# Altium schematic symbol library Schlib1.SchLib: 823 symbols (part 5 of 12)
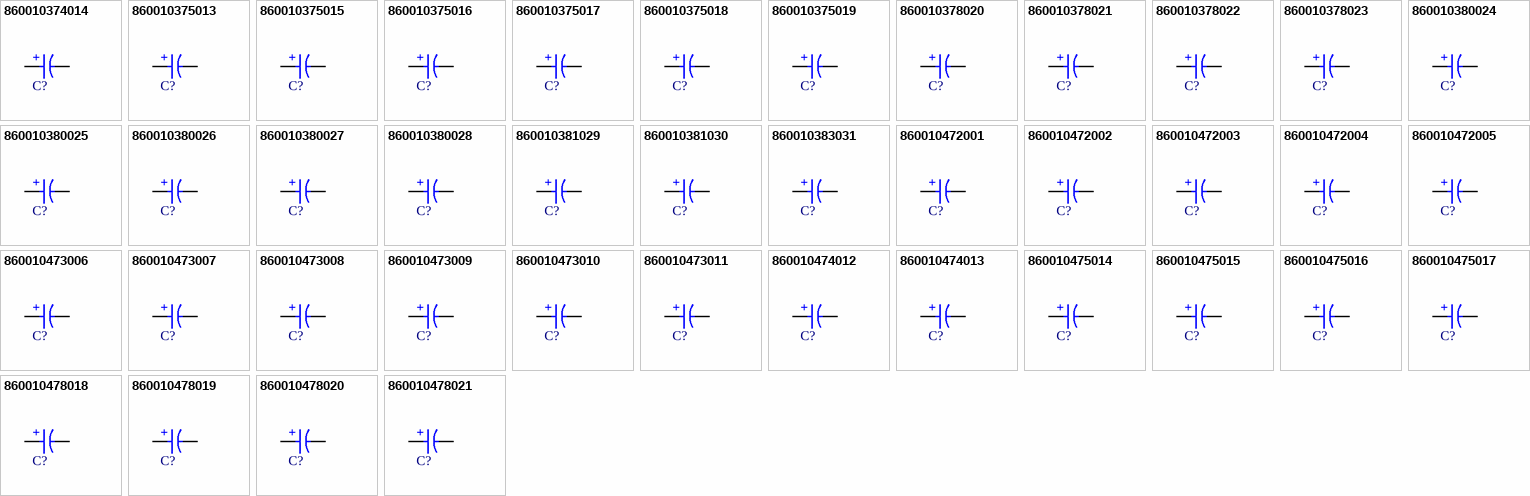
[diagram p43: symbols 860010374014 to 860010478021]

## 860010474013
designator C?, comment 470uF  (value not drawn)
WCAP-ATG8 Aluminum Electrolytic Capacitor, Radial, THT, D8 x H11.5mm, 470uF, 25V; Manufacturer Part Number: 860010474013; Manufacturer: Wurth Elektronik; Capacitance Tolerance: +/-20%; Dissipation Factor: 14%; Endurance: 2000h; Leakage Current: 117.5uA; Ripple Current: 561mA; Technical Reference: ATBE115471M025DSPA7B000; Category: Aluminum Electrolytic Capacitors; Match Code: WCAP-ATG8; ComponentLink1Description: Website Link; ComponentLink1URL: https://www.we-online.com/redexpert/article/860010474013?ad; ComponentLink2Description: Datasheet Link; ComponentLink2URL: https://www.we-online.com/redexpert/spec/860010474013?ad; Mount: Through Hole; Operating Temperature Max: 85°C; Operating Temperature Min: -40°C; Packaging: Ammo Pack; Height: 11.5mm; Diameter: 8mm; Capacitance: 470uF; Rated Voltage (DC): 25V
footprint WCAP-ATG8_D8H11.5
simulation model 860010474013_470uF
pins: 1 P, 2 N
text: +

## 860010475014
designator C?, comment 560uF  (value not drawn)
WCAP-ATG8 Aluminum Electrolytic Capacitor, Radial, THT, D10 x H16mm, 560uF, 25V; Manufacturer Part Number: 860010475014; Manufacturer: Wurth Elektronik; Capacitance Tolerance: +/-20%; Dissipation Factor: 14%; Endurance: 2000h; Leakage Current: 140uA; Ripple Current: 693mA; Technical Reference: ATBF160561M025DSPAAB000; Category: Aluminum Electrolytic Capacitors; Match Code: WCAP-ATG8; ComponentLink1Description: Website Link; ComponentLink1URL: https://www.we-online.com/redexpert/article/860010475014?ad; ComponentLink2Description: Datasheet Link; ComponentLink2URL: https://www.we-online.com/redexpert/spec/860010475014?ad; Mount: Through Hole; Operating Temperature Max: 85°C; Operating Temperature Min: -40°C; Packaging: Ammo Pack; Height: 16mm; Diameter: 10mm; Capacitance: 560uF; Rated Voltage (DC): 25V
footprint WCAP-ATG8_D10H16
simulation model 860010475014_560uF
pins: 1 P, 2 N
text: +

## 860010475015
designator C?, comment 680uF  (value not drawn)
WCAP-ATG8 Aluminum Electrolytic Capacitor, Radial, THT, D10 x H16mm, 680uF, 25V; Manufacturer Part Number: 860010475015; Manufacturer: Wurth Elektronik; Capacitance Tolerance: +/-20%; Dissipation Factor: 14%; Endurance: 2000h; Leakage Current: 170uA; Ripple Current: 792mA; Technical Reference: ATBF160681M025DSPAAB000; Category: Aluminum Electrolytic Capacitors; Match Code: WCAP-ATG8; ComponentLink1Description: Website Link; ComponentLink1URL: https://www.we-online.com/redexpert/article/860010475015?ad; ComponentLink2Description: Datasheet Link; ComponentLink2URL: https://www.we-online.com/redexpert/spec/860010475015?ad; Mount: Through Hole; Operating Temperature Max: 85°C; Operating Temperature Min: -40°C; Packaging: Ammo Pack; Height: 16mm; Diameter: 10mm; Capacitance: 680uF; Rated Voltage (DC): 25V
footprint WCAP-ATG8_D10H16
simulation model 860010475015_680uF
pins: 1 P, 2 N
text: +

## 860010475016
designator C?, comment 820uF  (value not drawn)
WCAP-ATG8 Aluminum Electrolytic Capacitor, Radial, THT, D10 x H20mm, 820uF, 25V; Manufacturer Part Number: 860010475016; Manufacturer: Wurth Elektronik; Capacitance Tolerance: +/-20%; Dissipation Factor: 14%; Endurance: 2000h; Leakage Current: 205uA; Ripple Current: 891mA; Technical Reference: ATBF200821M025DSPAAB000; Category: Aluminum Electrolytic Capacitors; Match Code: WCAP-ATG8; ComponentLink1Description: Website Link; ComponentLink1URL: https://www.we-online.com/redexpert/article/860010475016?ad; ComponentLink2Description: Datasheet Link; ComponentLink2URL: https://www.we-online.com/redexpert/spec/860010475016?ad; Mount: Through Hole; Operating Temperature Max: 85°C; Operating Temperature Min: -40°C; Packaging: Ammo Pack; Height: 20mm; Diameter: 10mm; Capacitance: 820uF; Rated Voltage (DC): 25V
footprint WCAP-ATG8_D10H20
simulation model 860010475016_820uF
pins: 1 P, 2 N
text: +

## 860010475017
designator C?, comment 1000uF  (value not drawn)
WCAP-ATG8 Aluminum Electrolytic Capacitor, Radial, THT, D10 x H20mm, 1000uF, 25V; Manufacturer Part Number: 860010475017; Manufacturer: Wurth Elektronik; Capacitance Tolerance: +/-20%; Dissipation Factor: 14%; Endurance: 2000h; Leakage Current: 250uA; Ripple Current: 1050mA; Technical Reference: ATBF200102M025DSPAAB000; Category: Aluminum Electrolytic Capacitors; Match Code: WCAP-ATG8; ComponentLink1Description: Website Link; ComponentLink1URL: https://www.we-online.com/redexpert/article/860010475017?ad; ComponentLink2Description: Datasheet Link; ComponentLink2URL: https://www.we-online.com/redexpert/spec/860010475017?ad; Mount: Through Hole; Operating Temperature Max: 85°C; Operating Temperature Min: -40°C; Packaging: Ammo Pack; Height: 20mm; Diameter: 10mm; Capacitance: 1000uF; Rated Voltage (DC): 25V
footprint WCAP-ATG8_D10H20
simulation model 860010475017_1mF
pins: 1 P, 2 N
text: +

## 860010478018
designator C?, comment 1200uF  (value not drawn)
WCAP-ATG8 Aluminum Electrolytic Capacitor, Radial, THT, D13 x H20mm, 1200uF, 25V; Manufacturer Part Number: 860010478018; Manufacturer: Wurth Elektronik; Capacitance Tolerance: +/-20%; Dissipation Factor: 14%; Endurance: 2000h; Leakage Current: 300uA; Ripple Current: 1155mA; Technical Reference: ATBI200122M025DSPACB000; Category: Aluminum Electrolytic Capacitors; Match Code: WCAP-ATG8; ComponentLink1Description: Website Link; ComponentLink1URL: https://www.we-online.com/redexpert/article/860010478018?ad; ComponentLink2Description: Datasheet Link; ComponentLink2URL: https://www.we-online.com/redexpert/spec/860010478018?ad; Mount: Through Hole; Operating Temperature Max: 85°C; Operating Temperature Min: -40°C; Packaging: Ammo Pack; Height: 20mm; Diameter: 13mm; Capacitance: 1200uF; Rated Voltage (DC): 25V
footprint WCAP-ATG8_D13H20
simulation model 860010478018_1.2mF
pins: 1 P, 2 N
text: +

## 860010478019
designator C?, comment 1500uF  (value not drawn)
WCAP-ATG8 Aluminum Electrolytic Capacitor, Radial, THT, D13 x H20mm, 1500uF, 25V; Manufacturer Part Number: 860010478019; Manufacturer: Wurth Elektronik; Capacitance Tolerance: +/-20%; Dissipation Factor: 14%; Endurance: 2000h; Leakage Current: 375uA; Ripple Current: 1353mA; Technical Reference: ATBI200152M025DSPACB000; Category: Aluminum Electrolytic Capacitors; Match Code: WCAP-ATG8; ComponentLink1Description: Website Link; ComponentLink1URL: https://www.we-online.com/redexpert/article/860010478019?ad; ComponentLink2Description: Datasheet Link; ComponentLink2URL: https://www.we-online.com/redexpert/spec/860010478019?ad; Mount: Through Hole; Operating Temperature Max: 85°C; Operating Temperature Min: -40°C; Packaging: Ammo Pack; Height: 20mm; Diameter: 13mm; Capacitance: 1500uF; Rated Voltage (DC): 25V
footprint WCAP-ATG8_D13H20
simulation model 860010478019_1.5mF
pins: 1 P, 2 N
text: +

## 860010478020
designator C?, comment 1800uF  (value not drawn)
WCAP-ATG8 Aluminum Electrolytic Capacitor, Radial, THT, D13 x H20mm, 1800uF, 25V; Manufacturer Part Number: 860010478020; Manufacturer: Wurth Elektronik; Capacitance Tolerance: +/-20%; Dissipation Factor: 14%; Endurance: 2000h; Leakage Current: 450uA; Ripple Current: 1496mA; Technical Reference: ATBI200182M025DSPACB000; Category: Aluminum Electrolytic Capacitors; Match Code: WCAP-ATG8; ComponentLink1Description: Website Link; ComponentLink1URL: https://www.we-online.com/redexpert/article/860010478020?ad; ComponentLink2Description: Datasheet Link; ComponentLink2URL: https://www.we-online.com/redexpert/spec/860010478020?ad; Mount: Through Hole; Operating Temperature Max: 85°C; Operating Temperature Min: -40°C; Packaging: Ammo Pack; Height: 20mm; Diameter: 13mm; Capacitance: 1800uF; Rated Voltage (DC): 25V
footprint WCAP-ATG8_D13H20
simulation model 860010478020_1.8mF
pins: 1 P, 2 N
text: +

## 860010478021
designator C?, comment 2200uF  (value not drawn)
WCAP-ATG8 Aluminum Electrolytic Capacitor, Radial, THT, D13 x H25mm, 2200uF, 25V; Manufacturer Part Number: 860010478021; Manufacturer: Wurth Elektronik; Capacitance Tolerance: +/-20%; Dissipation Factor: 14%; Endurance: 2000h; Leakage Current: 550uA; Ripple Current: 1705mA; Technical Reference: ATBI250222M025DSPACB000; Category: Aluminum Electrolytic Capacitors; Match Code: WCAP-ATG8; ComponentLink1Description: Website Link; ComponentLink1URL: https://www.we-online.com/redexpert/article/860010478021?ad; ComponentLink2Description: Datasheet Link; ComponentLink2URL: https://www.we-online.com/redexpert/spec/860010478021?ad; Mount: Through Hole; Operating Temperature Max: 85°C; Operating Temperature Min: -40°C; Packaging: Ammo Pack; Height: 25mm; Diameter: 13mm; Capacitance: 2200uF; Rated Voltage (DC): 25V
footprint WCAP-ATG8_D13H25
simulation model 860010478021_2.2mF
pins: 1 P, 2 N
text: +

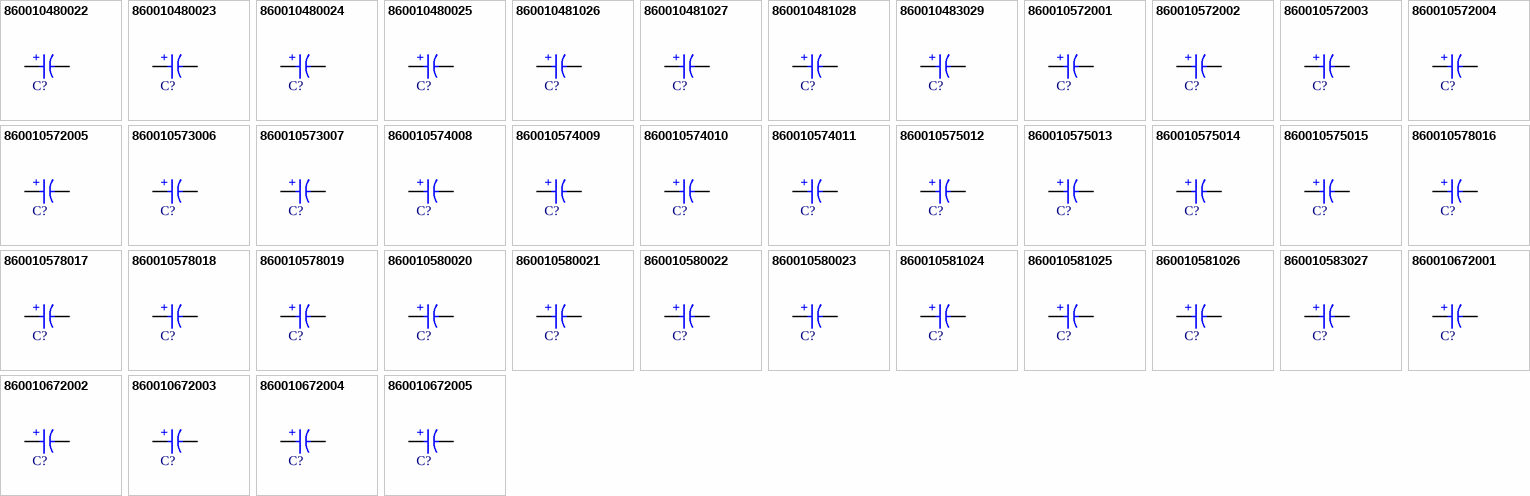
[diagram p8: symbols 860010480022 to 860010672005]

## 860010480022
designator C?, comment 2700uF  (value not drawn)
WCAP-ATG8 Aluminum Electrolytic Capacitor, Radial, THT, D16 x H25mm, 2700uF, 25V; Manufacturer Part Number: 860010480022; Manufacturer: Wurth Elektronik; Capacitance Tolerance: +/-20%; Dissipation Factor: 14%; Endurance: 2000h; Leakage Current: 675uA; Ripple Current: 1804mA; Technical Reference: ATBK250272M025DSPAEB000; Category: Aluminum Electrolytic Capacitors; Match Code: WCAP-ATG8; ComponentLink1Description: Website Link; ComponentLink1URL: https://www.we-online.com/redexpert/article/860010480022?ad; ComponentLink2Description: Datasheet Link; ComponentLink2URL: https://www.we-online.com/redexpert/spec/860010480022?ad; Mount: Through Hole; Operating Temperature Max: 85°C; Operating Temperature Min: -40°C; Packaging: Ammo Pack; Height: 25mm; Diameter: 16mm; Capacitance: 2700uF; Rated Voltage (DC): 25V
footprint WCAP-ATG8_D16H25
simulation model 860010480022_2.7mF
pins: 1 P, 2 N
text: +

## 860010480023
designator C?, comment 3300uF  (value not drawn)
WCAP-ATG8 Aluminum Electrolytic Capacitor, Radial, THT, D16 x H25mm, 3300uF, 25V; Manufacturer Part Number: 860010480023; Manufacturer: Wurth Elektronik; Capacitance Tolerance: +/-20%; Dissipation Factor: 14%; Endurance: 2000h; Leakage Current: 825uA; Ripple Current: 1870mA; Technical Reference: ATBK250332M025DSPAEB000; Category: Aluminum Electrolytic Capacitors; Match Code: WCAP-ATG8; ComponentLink1Description: Website Link; ComponentLink1URL: https://www.we-online.com/redexpert/article/860010480023?ad; ComponentLink2Description: Datasheet Link; ComponentLink2URL: https://www.we-online.com/redexpert/spec/860010480023?ad; Mount: Through Hole; Operating Temperature Max: 85°C; Operating Temperature Min: -40°C; Packaging: Ammo Pack; Height: 25mm; Diameter: 16mm; Capacitance: 3300uF; Rated Voltage (DC): 25V
footprint WCAP-ATG8_D16H25
simulation model 860010480023_3.3mF
pins: 1 P, 2 N
text: +

## 860010480024
designator C?, comment 3900uF  (value not drawn)
WCAP-ATG8 Aluminum Electrolytic Capacitor, Radial, THT, D16 x H31.5mm, 3900uF, 25V; Manufacturer Part Number: 860010480024; Manufacturer: Wurth Elektronik; Capacitance Tolerance: +/-20%; Dissipation Factor: 14%; Endurance: 2000h; Leakage Current: 975uA; Ripple Current: 2343mA; Technical Reference: ATBK315392M025DSPADB000; Category: Aluminum Electrolytic Capacitors; Match Code: WCAP-ATG8; ComponentLink1Description: Website Link; ComponentLink1URL: https://www.we-online.com/redexpert/article/860010480024?ad; ComponentLink2Description: Datasheet Link; ComponentLink2URL: https://www.we-online.com/redexpert/spec/860010480024?ad; Mount: Through Hole; Operating Temperature Max: 85°C; Operating Temperature Min: -40°C; Packaging: Ammo Pack; Height: 31.5mm; Diameter: 16mm; Capacitance: 3900uF; Rated Voltage (DC): 25V
footprint WCAP-ATG8_D16H31.5
simulation model 860010480024_3.9mF
pins: 1 P, 2 N
text: +

## 860010480025
designator C?, comment 4700uF  (value not drawn)
WCAP-ATG8 Aluminum Electrolytic Capacitor, Radial, THT, D16 x H31.5mm, 4700uF, 25V; Manufacturer Part Number: 860010480025; Manufacturer: Wurth Elektronik; Capacitance Tolerance: +/-20%; Dissipation Factor: 14%; Endurance: 2000h; Leakage Current: 1175uA; Ripple Current: 2640mA; Technical Reference: ATBK315472M025DSPADB000; Category: Aluminum Electrolytic Capacitors; Match Code: WCAP-ATG8; ComponentLink1Description: Website Link; ComponentLink1URL: https://www.we-online.com/redexpert/article/860010480025?ad; ComponentLink2Description: Datasheet Link; ComponentLink2URL: https://www.we-online.com/redexpert/spec/860010480025?ad; Mount: Through Hole; Operating Temperature Max: 85°C; Operating Temperature Min: -40°C; Packaging: Ammo Pack; Height: 31.5mm; Diameter: 16mm; Capacitance: 4700uF; Rated Voltage (DC): 25V
footprint WCAP-ATG8_D16H31.5
simulation model 860010480025_4.7mF
pins: 1 P, 2 N
text: +

## 860010481026
designator C?, comment 5600uF  (value not drawn)
WCAP-ATG8 Aluminum Electrolytic Capacitor, Radial, THT, D18 x H31.5mm, 5600uF, 25V; Manufacturer Part Number: 860010481026; Manufacturer: Wurth Elektronik; Capacitance Tolerance: +/-20%; Dissipation Factor: 14%; Endurance: 2000h; Leakage Current: 1400uA; Ripple Current: 2816mA; Technical Reference: ATBL315562M025DSPAEB000; Category: Aluminum Electrolytic Capacitors; Match Code: WCAP-ATG8; ComponentLink1Description: Website Link; ComponentLink1URL: https://www.we-online.com/redexpert/article/860010481026?ad; ComponentLink2Description: Datasheet Link; ComponentLink2URL: https://www.we-online.com/redexpert/spec/860010481026?ad; Mount: Through Hole; Operating Temperature Max: 85°C; Operating Temperature Min: -40°C; Packaging: Ammo Pack; Height: 31.5mm; Diameter: 18mm; Capacitance: 5600uF; Rated Voltage (DC): 25V
footprint WCAP-ATG8_D18H31.5
simulation model 860010481026_5.6mF
pins: 1 P, 2 N
text: +

## 860010481027
designator C?, comment 6800uF  (value not drawn)
WCAP-ATG8 Aluminum Electrolytic Capacitor, Radial, THT, D18 x H35.5mm, 6800uF, 25V; Manufacturer Part Number: 860010481027; Manufacturer: Wurth Elektronik; Capacitance Tolerance: +/-20%; Dissipation Factor: 14%; Endurance: 2000h; Leakage Current: 1700uA; Ripple Current: 2970mA; Technical Reference: ATBL355682M025DSPAEB000; Category: Aluminum Electrolytic Capacitors; Match Code: WCAP-ATG8; ComponentLink1Description: Website Link; ComponentLink1URL: https://www.we-online.com/redexpert/article/860010481027?ad; ComponentLink2Description: Datasheet Link; ComponentLink2URL: https://www.we-online.com/redexpert/spec/860010481027?ad; Mount: Through Hole; Operating Temperature Max: 85°C; Operating Temperature Min: -40°C; Packaging: Ammo Pack; Height: 35.5mm; Diameter: 18mm; Capacitance: 6800uF; Rated Voltage (DC): 25V
footprint WCAP-ATG8_D18H35.5
simulation model 860010481027_6.8mF
pins: 1 P, 2 N
text: +

## 860010481028
designator C?, comment 8200uF  (value not drawn)
WCAP-ATG8 Aluminum Electrolytic Capacitor, Radial, THT, D18 x H35.5mm, 8200uF, 25V; Manufacturer Part Number: 860010481028; Manufacturer: Wurth Elektronik; Capacitance Tolerance: +/-20%; Dissipation Factor: 14%; Endurance: 2000h; Leakage Current: 2050uA; Ripple Current: 2981mA; Technical Reference: ATBL355822M025DSPAEB000; Category: Aluminum Electrolytic Capacitors; Match Code: WCAP-ATG8; ComponentLink1Description: Website Link; ComponentLink1URL: https://www.we-online.com/redexpert/article/860010481028?ad; ComponentLink2Description: Datasheet Link; ComponentLink2URL: https://www.we-online.com/redexpert/spec/860010481028?ad; Mount: Through Hole; Operating Temperature Max: 85°C; Operating Temperature Min: -40°C; Packaging: Ammo Pack; Height: 35.5mm; Diameter: 18mm; Capacitance: 8200uF; Rated Voltage (DC): 25V
footprint WCAP-ATG8_D18H35.5
simulation model 860010481028_8.2mF
pins: 1 P, 2 N
text: +

## 860010483029
designator C?, comment 10000uF  (value not drawn)
WCAP-ATG8 Aluminum Electrolytic Capacitor, Radial, THT, D22 x H41mm, 10000uF, 25V; Manufacturer Part Number: 860010483029; Manufacturer: Wurth Elektronik; Capacitance Tolerance: +/-20%; Dissipation Factor: 14%; Endurance: 2000h; Leakage Current: 2500uA; Ripple Current: 3960mA; Technical Reference: ATBN410103M025DSPS2B000; Category: Aluminum Electrolytic Capacitors; Match Code: WCAP-ATG8; ComponentLink1Description: Website Link; ComponentLink1URL: https://www.we-online.com/redexpert/article/860010483029?ad; ComponentLink2Description: Datasheet Link; ComponentLink2URL: https://www.we-online.com/redexpert/spec/860010483029?ad; Mount: Through Hole; Operating Temperature Max: 85°C; Operating Temperature Min: -40°C; Packaging: Ammo Pack; Height: 41mm; Diameter: 22mm; Capacitance: 10000uF; Rated Voltage (DC): 25V
footprint WCAP-ATG8_D22H41
simulation model 860010483029_10mF
pins: 1 P, 2 N
text: +

## 860010572001
designator C?, comment 4.7uF  (value not drawn)
WCAP-ATG8 Aluminum Electrolytic Capacitor, Radial, THT, D5 x H11mm, 4.7uF, 35V; Manufacturer Part Number: 860010572001; Manufacturer: Wurth Elektronik; Capacitance Tolerance: +/-20%; Dissipation Factor: 12%; Endurance: 2000h; Leakage Current: 3uA; Ripple Current: 44mA; Technical Reference: ATBC1104R7M035DSPA3B000; Category: Aluminum Electrolytic Capacitors; Match Code: WCAP-ATG8; ComponentLink1Description: Website Link; ComponentLink1URL: https://www.we-online.com/redexpert/article/860010572001?ad; ComponentLink2Description: Datasheet Link; ComponentLink2URL: https://www.we-online.com/redexpert/spec/860010572001?ad; Mount: Through Hole; Operating Temperature Max: 85°C; Operating Temperature Min: -40°C; Packaging: Ammo Pack; Height: 11mm; Diameter: 5mm; Capacitance: 4.7uF; Rated Voltage (DC): 35V
footprint WCAP-ATG8_D5H11
simulation model 860010572001_4.7uF
pins: 1 P, 2 N
text: +

## 860010572002
designator C?, comment 10uF  (value not drawn)
WCAP-ATG8 Aluminum Electrolytic Capacitor, Radial, THT, D5 x H11mm, 10uF, 35V; Manufacturer Part Number: 860010572002; Manufacturer: Wurth Elektronik; Capacitance Tolerance: +/-20%; Dissipation Factor: 12%; Endurance: 2000h; Leakage Current: 3.5uA; Ripple Current: 66mA; Technical Reference: ATBC110100M035DSPA3B000; Category: Aluminum Electrolytic Capacitors; Match Code: WCAP-ATG8; ComponentLink1Description: Website Link; ComponentLink1URL: https://www.we-online.com/redexpert/article/860010572002?ad; ComponentLink2Description: Datasheet Link; ComponentLink2URL: https://www.we-online.com/redexpert/spec/860010572002?ad; Mount: Through Hole; Operating Temperature Max: 85°C; Operating Temperature Min: -40°C; Packaging: Ammo Pack; Height: 11mm; Diameter: 5mm; Capacitance: 10uF; Rated Voltage (DC): 35V
footprint WCAP-ATG8_D5H11
simulation model 860010572002_10uF
pins: 1 P, 2 N
text: +

## 860010572003
designator C?, comment 22uF  (value not drawn)
WCAP-ATG8 Aluminum Electrolytic Capacitor, Radial, THT, D5 x H11mm, 22uF, 35V; Manufacturer Part Number: 860010572003; Manufacturer: Wurth Elektronik; Capacitance Tolerance: +/-20%; Dissipation Factor: 12%; Endurance: 2000h; Leakage Current: 7.7uA; Ripple Current: 108mA; Technical Reference: ATBC110220M035DSPA3B000; Category: Aluminum Electrolytic Capacitors; Match Code: WCAP-ATG8; ComponentLink1Description: Website Link; ComponentLink1URL: https://www.we-online.com/redexpert/article/860010572003?ad; ComponentLink2Description: Datasheet Link; ComponentLink2URL: https://www.we-online.com/redexpert/spec/860010572003?ad; Mount: Through Hole; Operating Temperature Max: 85°C; Operating Temperature Min: -40°C; Packaging: Ammo Pack; Height: 11mm; Diameter: 5mm; Capacitance: 22uF; Rated Voltage (DC): 35V
footprint WCAP-ATG8_D5H11
simulation model 860010572003_22uF
pins: 1 P, 2 N
text: +

## 860010572004
designator C?, comment 33uF  (value not drawn)
WCAP-ATG8 Aluminum Electrolytic Capacitor, Radial, THT, D5 x H11mm, 33uF, 35V; Manufacturer Part Number: 860010572004; Manufacturer: Wurth Elektronik; Capacitance Tolerance: +/-20%; Dissipation Factor: 12%; Endurance: 2000h; Leakage Current: 11.55uA; Ripple Current: 121mA; Technical Reference: ATBC110330M035DSPA3B000; Category: Aluminum Electrolytic Capacitors; Match Code: WCAP-ATG8; ComponentLink1Description: Website Link; ComponentLink1URL: https://www.we-online.com/redexpert/article/860010572004?ad; ComponentLink2Description: Datasheet Link; ComponentLink2URL: https://www.we-online.com/redexpert/spec/860010572004?ad; Mount: Through Hole; Operating Temperature Max: 85°C; Operating Temperature Min: -40°C; Packaging: Ammo Pack; Height: 11mm; Diameter: 5mm; Capacitance: 33uF; Rated Voltage (DC): 35V
footprint WCAP-ATG8_D5H11
simulation model 860010572004_33uF
pins: 1 P, 2 N
text: +

## 860010572005
designator C?, comment 47uF  (value not drawn)
WCAP-ATG8 Aluminum Electrolytic Capacitor, Radial, THT, D5 x H11mm, 47uF, 35V; Manufacturer Part Number: 860010572005; Manufacturer: Wurth Elektronik; Capacitance Tolerance: +/-20%; Dissipation Factor: 12%; Endurance: 2000h; Leakage Current: 16.45uA; Ripple Current: 143mA; Technical Reference: ATBC110470M035DSPA3B000; Category: Aluminum Electrolytic Capacitors; Match Code: WCAP-ATG8; ComponentLink1Description: Website Link; ComponentLink1URL: https://www.we-online.com/redexpert/article/860010572005?ad; ComponentLink2Description: Datasheet Link; ComponentLink2URL: https://www.we-online.com/redexpert/spec/860010572005?ad; Mount: Through Hole; Operating Temperature Max: 85°C; Operating Temperature Min: -40°C; Packaging: Ammo Pack; Height: 11mm; Diameter: 5mm; Capacitance: 47uF; Rated Voltage (DC): 35V
footprint WCAP-ATG8_D5H11
simulation model 860010572005_47uF
pins: 1 P, 2 N
text: +

## 860010573006
designator C?, comment 68uF  (value not drawn)
WCAP-ATG8 Aluminum Electrolytic Capacitor, Radial, THT, D6.3 x H11mm, 68uF, 35V; Manufacturer Part Number: 860010573006; Manufacturer: Wurth Elektronik; Capacitance Tolerance: +/-20%; Dissipation Factor: 12%; Endurance: 2000h; Leakage Current: 23.8uA; Ripple Current: 198mA; Technical Reference: ATBD110680M035DSPA4B000; Category: Aluminum Electrolytic Capacitors; Match Code: WCAP-ATG8; ComponentLink1Description: Website Link; ComponentLink1URL: https://www.we-online.com/redexpert/article/860010573006?ad; ComponentLink2Description: Datasheet Link; ComponentLink2URL: https://www.we-online.com/redexpert/spec/860010573006?ad; Mount: Through Hole; Operating Temperature Max: 85°C; Operating Temperature Min: -40°C; Packaging: Ammo Pack; Height: 11mm; Diameter: 6.3mm; Capacitance: 68uF; Rated Voltage (DC): 35V
footprint WCAP-ATG8_D6.3H11
simulation model 860010573006_68uF
pins: 1 P, 2 N
text: +

## 860010573007
designator C?, comment 100uF  (value not drawn)
WCAP-ATG8 Aluminum Electrolytic Capacitor, Radial, THT, D6.3 x H11mm, 100uF, 35V; Manufacturer Part Number: 860010573007; Manufacturer: Wurth Elektronik; Capacitance Tolerance: +/-20%; Dissipation Factor: 12%; Endurance: 2000h; Leakage Current: 35uA; Ripple Current: 231mA; Technical Reference: ATBD110101M035DSPA4B000; Category: Aluminum Electrolytic Capacitors; Match Code: WCAP-ATG8; ComponentLink1Description: Website Link; ComponentLink1URL: https://www.we-online.com/redexpert/article/860010573007?ad; ComponentLink2Description: Datasheet Link; ComponentLink2URL: https://www.we-online.com/redexpert/spec/860010573007?ad; Mount: Through Hole; Operating Temperature Max: 85°C; Operating Temperature Min: -40°C; Packaging: Ammo Pack; Height: 11mm; Diameter: 6.3mm; Capacitance: 100uF; Rated Voltage (DC): 35V
footprint WCAP-ATG8_D6.3H11
simulation model 860010573007_100uF
pins: 1 P, 2 N
text: +

## 860010574008
designator C?, comment 120uF  (value not drawn)
WCAP-ATG8 Aluminum Electrolytic Capacitor, Radial, THT, D8 x H11.5mm, 120uF, 35V; Manufacturer Part Number: 860010574008; Manufacturer: Wurth Elektronik; Capacitance Tolerance: +/-20%; Dissipation Factor: 12%; Endurance: 2000h; Leakage Current: 42uA; Ripple Current: 275mA; Technical Reference: ATBE115121M035DSPA7B000; Category: Aluminum Electrolytic Capacitors; Match Code: WCAP-ATG8; ComponentLink1Description: Website Link; ComponentLink1URL: https://www.we-online.com/redexpert/article/860010574008?ad; ComponentLink2Description: Datasheet Link; ComponentLink2URL: https://www.we-online.com/redexpert/spec/860010574008?ad; Mount: Through Hole; Operating Temperature Max: 85°C; Operating Temperature Min: -40°C; Packaging: Ammo Pack; Height: 11.5mm; Diameter: 8mm; Capacitance: 120uF; Rated Voltage (DC): 35V
footprint WCAP-ATG8_D8H11.5
simulation model 860010574008_120uF
pins: 1 P, 2 N
text: +

## 860010574009
designator C?, comment 150uF  (value not drawn)
WCAP-ATG8 Aluminum Electrolytic Capacitor, Radial, THT, D8 x H11.5mm, 150uF, 35V; Manufacturer Part Number: 860010574009; Manufacturer: Wurth Elektronik; Capacitance Tolerance: +/-20%; Dissipation Factor: 12%; Endurance: 2000h; Leakage Current: 52.5uA; Ripple Current: 308mA; Technical Reference: ATBE115151M035DSPA7B000; Category: Aluminum Electrolytic Capacitors; Match Code: WCAP-ATG8; ComponentLink1Description: Website Link; ComponentLink1URL: https://www.we-online.com/redexpert/article/860010574009?ad; ComponentLink2Description: Datasheet Link; ComponentLink2URL: https://www.we-online.com/redexpert/spec/860010574009?ad; Mount: Through Hole; Operating Temperature Max: 85°C; Operating Temperature Min: -40°C; Packaging: Ammo Pack; Height: 11.5mm; Diameter: 8mm; Capacitance: 150uF; Rated Voltage (DC): 35V
footprint WCAP-ATG8_D8H11.5
simulation model 860010574009_150uF
pins: 1 P, 2 N
text: +

## 860010574010
designator C?, comment 180uF  (value not drawn)
WCAP-ATG8 Aluminum Electrolytic Capacitor, Radial, THT, D8 x H11.5mm, 180uF, 35V; Manufacturer Part Number: 860010574010; Manufacturer: Wurth Elektronik; Capacitance Tolerance: +/-20%; Dissipation Factor: 12%; Endurance: 2000h; Leakage Current: 63uA; Ripple Current: 352mA; Technical Reference: ATBE115181M035DSPA7B000; Category: Aluminum Electrolytic Capacitors; Match Code: WCAP-ATG8; ComponentLink1Description: Website Link; ComponentLink1URL: https://www.we-online.com/redexpert/article/860010574010?ad; ComponentLink2Description: Datasheet Link; ComponentLink2URL: https://www.we-online.com/redexpert/spec/860010574010?ad; Mount: Through Hole; Operating Temperature Max: 85°C; Operating Temperature Min: -40°C; Packaging: Ammo Pack; Height: 11.5mm; Diameter: 8mm; Capacitance: 180uF; Rated Voltage (DC): 35V
footprint WCAP-ATG8_D8H11.5
simulation model 860010574010_180uF
pins: 1 P, 2 N
text: +

## 860010574011
designator C?, comment 220uF  (value not drawn)
WCAP-ATG8 Aluminum Electrolytic Capacitor, Radial, THT, D8 x H11.5mm, 220uF, 35V; Manufacturer Part Number: 860010574011; Manufacturer: Wurth Elektronik; Capacitance Tolerance: +/-20%; Dissipation Factor: 12%; Endurance: 2000h; Leakage Current: 77uA; Ripple Current: 385mA; Technical Reference: ATBE115221M035DSPA7B000; Category: Aluminum Electrolytic Capacitors; Match Code: WCAP-ATG8; ComponentLink1Description: Website Link; ComponentLink1URL: https://www.we-online.com/redexpert/article/860010574011?ad; ComponentLink2Description: Datasheet Link; ComponentLink2URL: https://www.we-online.com/redexpert/spec/860010574011?ad; Mount: Through Hole; Operating Temperature Max: 85°C; Operating Temperature Min: -40°C; Packaging: Ammo Pack; Height: 11.5mm; Diameter: 8mm; Capacitance: 220uF; Rated Voltage (DC): 35V
footprint WCAP-ATG8_D8H11.5
simulation model 860010574011_220uF
pins: 1 P, 2 N
text: +

## 860010575012
designator C?, comment 330uF  (value not drawn)
WCAP-ATG8 Aluminum Electrolytic Capacitor, Radial, THT, D10 x H12.5mm, 330uF, 35V; Manufacturer Part Number: 860010575012; Manufacturer: Wurth Elektronik; Capacitance Tolerance: +/-20%; Dissipation Factor: 12%; Endurance: 2000h; Leakage Current: 115.5uA; Ripple Current: 528mA; Technical Reference: ATBF125331M035DSPA9B000; Category: Aluminum Electrolytic Capacitors; Match Code: WCAP-ATG8; ComponentLink1Description: Website Link; ComponentLink1URL: https://www.we-online.com/redexpert/article/860010575012?ad; ComponentLink2Description: Datasheet Link; ComponentLink2URL: https://www.we-online.com/redexpert/spec/860010575012?ad; Mount: Through Hole; Operating Temperature Max: 85°C; Operating Temperature Min: -40°C; Packaging: Ammo Pack; Height: 12.5mm; Diameter: 10mm; Capacitance: 330uF; Rated Voltage (DC): 35V
footprint WCAP-ATG8_D10H12.5
simulation model 860010575012_330uF
pins: 1 P, 2 N
text: +

## 860010575013
designator C?, comment 470uF  (value not drawn)
WCAP-ATG8 Aluminum Electrolytic Capacitor, Radial, THT, D10 x H16mm, 470uF, 35V; Manufacturer Part Number: 860010575013; Manufacturer: Wurth Elektronik; Capacitance Tolerance: +/-20%; Dissipation Factor: 12%; Endurance: 2000h; Leakage Current: 164.5uA; Ripple Current: 693mA; Technical Reference: ATBF160471M035DSPAAB000; Category: Aluminum Electrolytic Capacitors; Match Code: WCAP-ATG8; ComponentLink1Description: Website Link; ComponentLink1URL: https://www.we-online.com/redexpert/article/860010575013?ad; ComponentLink2Description: Datasheet Link; ComponentLink2URL: https://www.we-online.com/redexpert/spec/860010575013?ad; Mount: Through Hole; Operating Temperature Max: 85°C; Operating Temperature Min: -40°C; Packaging: Ammo Pack; Height: 16mm; Diameter: 10mm; Capacitance: 470uF; Rated Voltage (DC): 35V
footprint WCAP-ATG8_D10H16
simulation model 860010575013_470uF
pins: 1 P, 2 N
text: +

## 860010575014
designator C?, comment 560uF  (value not drawn)
WCAP-ATG8 Aluminum Electrolytic Capacitor, Radial, THT, D10 x H20mm, 560uF, 35V; Manufacturer Part Number: 860010575014; Manufacturer: Wurth Elektronik; Capacitance Tolerance: +/-20%; Dissipation Factor: 12%; Endurance: 2000h; Leakage Current: 196uA; Ripple Current: 847mA; Technical Reference: ATBF200561M035DSPAAB000; Category: Aluminum Electrolytic Capacitors; Match Code: WCAP-ATG8; ComponentLink1Description: Website Link; ComponentLink1URL: https://www.we-online.com/redexpert/article/860010575014?ad; ComponentLink2Description: Datasheet Link; ComponentLink2URL: https://www.we-online.com/redexpert/spec/860010575014?ad; Mount: Through Hole; Operating Temperature Max: 85°C; Operating Temperature Min: -40°C; Packaging: Ammo Pack; Height: 20mm; Diameter: 10mm; Capacitance: 560uF; Rated Voltage (DC): 35V
footprint WCAP-ATG8_D10H20
simulation model 860010575014_560uF
pins: 1 P, 2 N
text: +

## 860010575015
designator C?, comment 680uF  (value not drawn)
WCAP-ATG8 Aluminum Electrolytic Capacitor, Radial, THT, D10 x H20mm, 680uF, 35V; Manufacturer Part Number: 860010575015; Manufacturer: Wurth Elektronik; Capacitance Tolerance: +/-20%; Dissipation Factor: 12%; Endurance: 2000h; Leakage Current: 238uA; Ripple Current: 891mA; Technical Reference: ATBF200681M035DSPAAB000; Category: Aluminum Electrolytic Capacitors; Match Code: WCAP-ATG8; ComponentLink1Description: Website Link; ComponentLink1URL: https://www.we-online.com/redexpert/article/860010575015?ad; ComponentLink2Description: Datasheet Link; ComponentLink2URL: https://www.we-online.com/redexpert/spec/860010575015?ad; Mount: Through Hole; Operating Temperature Max: 85°C; Operating Temperature Min: -40°C; Packaging: Ammo Pack; Height: 20mm; Diameter: 10mm; Capacitance: 680uF; Rated Voltage (DC): 35V
footprint WCAP-ATG8_D10H20
simulation model 860010575015_680uF
pins: 1 P, 2 N
text: +

## 860010578016
designator C?, comment 820uF  (value not drawn)
WCAP-ATG8 Aluminum Electrolytic Capacitor, Radial, THT, D13 x H20mm, 820uF, 35V; Manufacturer Part Number: 860010578016; Manufacturer: Wurth Elektronik; Capacitance Tolerance: +/-20%; Dissipation Factor: 12%; Endurance: 2000h; Leakage Current: 287uA; Ripple Current: 1045mA; Technical Reference: ATBI200821M035DSPACB000; Category: Aluminum Electrolytic Capacitors; Match Code: WCAP-ATG8; ComponentLink1Description: Website Link; ComponentLink1URL: https://www.we-online.com/redexpert/article/860010578016?ad; ComponentLink2Description: Datasheet Link; ComponentLink2URL: https://www.we-online.com/redexpert/spec/860010578016?ad; Mount: Through Hole; Operating Temperature Max: 85°C; Operating Temperature Min: -40°C; Packaging: Ammo Pack; Height: 20mm; Diameter: 13mm; Capacitance: 820uF; Rated Voltage (DC): 35V
footprint WCAP-ATG8_D13H20
simulation model 860010578016_820uF
pins: 1 P, 2 N
text: +

## 860010578017
designator C?, comment 1000uF  (value not drawn)
WCAP-ATG8 Aluminum Electrolytic Capacitor, Radial, THT, D13 x H20mm, 1000uF, 35V; Manufacturer Part Number: 860010578017; Manufacturer: Wurth Elektronik; Capacitance Tolerance: +/-20%; Dissipation Factor: 12%; Endurance: 2000h; Leakage Current: 350uA; Ripple Current: 1265mA; Technical Reference: ATBI200102M035DSPACB000; Category: Aluminum Electrolytic Capacitors; Match Code: WCAP-ATG8; ComponentLink1Description: Website Link; ComponentLink1URL: https://www.we-online.com/redexpert/article/860010578017?ad; ComponentLink2Description: Datasheet Link; ComponentLink2URL: https://www.we-online.com/redexpert/spec/860010578017?ad; Mount: Through Hole; Operating Temperature Max: 85°C; Operating Temperature Min: -40°C; Packaging: Ammo Pack; Height: 20mm; Diameter: 13mm; Capacitance: 1000uF; Rated Voltage (DC): 35V
footprint WCAP-ATG8_D13H20
simulation model 860010578017_1mF
pins: 1 P, 2 N
text: +

## 860010578018
designator C?, comment 1200uF  (value not drawn)
WCAP-ATG8 Aluminum Electrolytic Capacitor, Radial, THT, D13 x H20mm, 1200uF, 35V; Manufacturer Part Number: 860010578018; Manufacturer: Wurth Elektronik; Capacitance Tolerance: +/-20%; Dissipation Factor: 12%; Endurance: 2000h; Leakage Current: 420uA; Ripple Current: 1375mA; Technical Reference: ATBI200122M035DSPACB000; Category: Aluminum Electrolytic Capacitors; Match Code: WCAP-ATG8; ComponentLink1Description: Website Link; ComponentLink1URL: https://www.we-online.com/redexpert/article/860010578018?ad; ComponentLink2Description: Datasheet Link; ComponentLink2URL: https://www.we-online.com/redexpert/spec/860010578018?ad; Mount: Through Hole; Operating Temperature Max: 85°C; Operating Temperature Min: -40°C; Packaging: Ammo Pack; Height: 20mm; Diameter: 13mm; Capacitance: 1200uF; Rated Voltage (DC): 35V
footprint WCAP-ATG8_D13H20
simulation model 860010578018_1.2mF
pins: 1 P, 2 N
text: +

## 860010578019
designator C?, comment 1500uF  (value not drawn)
WCAP-ATG8 Aluminum Electrolytic Capacitor, Radial, THT, D13 x H25mm, 1500uF, 35V; Manufacturer Part Number: 860010578019; Manufacturer: Wurth Elektronik; Capacitance Tolerance: +/-20%; Dissipation Factor: 12%; Endurance: 2000h; Leakage Current: 525uA; Ripple Current: 1570mA; Technical Reference: ATBI250152M035DSPACB000; Category: Aluminum Electrolytic Capacitors; Match Code: WCAP-ATG8; ComponentLink1Description: Website Link; ComponentLink1URL: https://www.we-online.com/redexpert/article/860010578019?ad; ComponentLink2Description: Datasheet Link; ComponentLink2URL: https://www.we-online.com/redexpert/spec/860010578019?ad; Mount: Through Hole; Operating Temperature Max: 85°C; Operating Temperature Min: -40°C; Packaging: Ammo Pack; Height: 25mm; Diameter: 13mm; Capacitance: 1500uF; Rated Voltage (DC): 35V
footprint WCAP-ATG8_D13H25
simulation model 860010578019_1.5mF
pins: 1 P, 2 N
text: +

## 860010580020
designator C?, comment 1800uF  (value not drawn)
WCAP-ATG8 Aluminum Electrolytic Capacitor, Radial, THT, D16 x H25mm, 1800uF, 35V; Manufacturer Part Number: 860010580020; Manufacturer: Wurth Elektronik; Capacitance Tolerance: +/-20%; Dissipation Factor: 12%; Endurance: 2000h; Leakage Current: 630uA; Ripple Current: 1749mA; Technical Reference: ATBK250182M035DSPAEB000; Category: Aluminum Electrolytic Capacitors; Match Code: WCAP-ATG8; ComponentLink1Description: Website Link; ComponentLink1URL: https://www.we-online.com/redexpert/article/860010580020?ad; ComponentLink2Description: Datasheet Link; ComponentLink2URL: https://www.we-online.com/redexpert/spec/860010580020?ad; Mount: Through Hole; Operating Temperature Max: 85°C; Operating Temperature Min: -40°C; Packaging: Ammo Pack; Height: 25mm; Diameter: 16mm; Capacitance: 1800uF; Rated Voltage (DC): 35V
footprint WCAP-ATG8_D16H25
simulation model 860010580020_1.8mF
pins: 1 P, 2 N
text: +

## 860010580021
designator C?, comment 2200uF  (value not drawn)
WCAP-ATG8 Aluminum Electrolytic Capacitor, Radial, THT, D16 x H25mm, 2200uF, 35V; Manufacturer Part Number: 860010580021; Manufacturer: Wurth Elektronik; Capacitance Tolerance: +/-20%; Dissipation Factor: 12%; Endurance: 2000h; Leakage Current: 770uA; Ripple Current: 1870mA; Technical Reference: ATBK250222M035DSPAEB000; Category: Aluminum Electrolytic Capacitors; Match Code: WCAP-ATG8; ComponentLink1Description: Website Link; ComponentLink1URL: https://www.we-online.com/redexpert/article/860010580021?ad; ComponentLink2Description: Datasheet Link; ComponentLink2URL: https://www.we-online.com/redexpert/spec/860010580021?ad; Mount: Through Hole; Operating Temperature Max: 85°C; Operating Temperature Min: -40°C; Packaging: Ammo Pack; Height: 25mm; Diameter: 16mm; Capacitance: 2200uF; Rated Voltage (DC): 35V
footprint WCAP-ATG8_D16H25
simulation model 860010580021_2.2mF
pins: 1 P, 2 N
text: +

## 860010580022
designator C?, comment 2700uF  (value not drawn)
WCAP-ATG8 Aluminum Electrolytic Capacitor, Radial, THT, D16 x H31.5mm, 2700uF, 35V; Manufacturer Part Number: 860010580022; Manufacturer: Wurth Elektronik; Capacitance Tolerance: +/-20%; Dissipation Factor: 12%; Endurance: 2000h; Leakage Current: 945uA; Ripple Current: 2178mA; Technical Reference: ATBK315272M035DSPADB000; Category: Aluminum Electrolytic Capacitors; Match Code: WCAP-ATG8; ComponentLink1Description: Website Link; ComponentLink1URL: https://www.we-online.com/redexpert/article/860010580022?ad; ComponentLink2Description: Datasheet Link; ComponentLink2URL: https://www.we-online.com/redexpert/spec/860010580022?ad; Mount: Through Hole; Operating Temperature Max: 85°C; Operating Temperature Min: -40°C; Packaging: Ammo Pack; Height: 31.5mm; Diameter: 16mm; Capacitance: 2700uF; Rated Voltage (DC): 35V
footprint WCAP-ATG8_D16H31.5
simulation model 860010580022_2.7mF
pins: 1 P, 2 N
text: +

## 860010580023
designator C?, comment 3300uF  (value not drawn)
WCAP-ATG8 Aluminum Electrolytic Capacitor, Radial, THT, D16 x H31.5mm, 3300uF, 35V; Manufacturer Part Number: 860010580023; Manufacturer: Wurth Elektronik; Capacitance Tolerance: +/-20%; Dissipation Factor: 12%; Endurance: 2000h; Leakage Current: 1155uA; Ripple Current: 2365mA; Technical Reference: ATBK315332M035DSPADB000; Category: Aluminum Electrolytic Capacitors; Match Code: WCAP-ATG8; ComponentLink1Description: Website Link; ComponentLink1URL: https://www.we-online.com/redexpert/article/860010580023?ad; ComponentLink2Description: Datasheet Link; ComponentLink2URL: https://www.we-online.com/redexpert/spec/860010580023?ad; Mount: Through Hole; Operating Temperature Max: 85°C; Operating Temperature Min: -40°C; Packaging: Ammo Pack; Height: 31.5mm; Diameter: 16mm; Capacitance: 3300uF; Rated Voltage (DC): 35V
footprint WCAP-ATG8_D16H31.5
simulation model 860010580023_3.3mF
pins: 1 P, 2 N
text: +

## 860010581024
designator C?, comment 3900uF  (value not drawn)
WCAP-ATG8 Aluminum Electrolytic Capacitor, Radial, THT, D18 x H31.5mm, 3900uF, 35V; Manufacturer Part Number: 860010581024; Manufacturer: Wurth Elektronik; Capacitance Tolerance: +/-20%; Dissipation Factor: 12%; Endurance: 2000h; Leakage Current: 1365uA; Ripple Current: 2640mA; Technical Reference: ATBL315392M035DSPAEB000; Category: Aluminum Electrolytic Capacitors; Match Code: WCAP-ATG8; ComponentLink1Description: Website Link; ComponentLink1URL: https://www.we-online.com/redexpert/article/860010581024?ad; ComponentLink2Description: Datasheet Link; ComponentLink2URL: https://www.we-online.com/redexpert/spec/860010581024?ad; Mount: Through Hole; Operating Temperature Max: 85°C; Operating Temperature Min: -40°C; Packaging: Ammo Pack; Height: 31.5mm; Diameter: 18mm; Capacitance: 3900uF; Rated Voltage (DC): 35V
footprint WCAP-ATG8_D18H31.5
simulation model 860010581024_3.9mF
pins: 1 P, 2 N
text: +

## 860010581025
designator C?, comment 4700uF  (value not drawn)
WCAP-ATG8 Aluminum Electrolytic Capacitor, Radial, THT, D18 x H35.5mm, 4700uF, 35V; Manufacturer Part Number: 860010581025; Manufacturer: Wurth Elektronik; Capacitance Tolerance: +/-20%; Dissipation Factor: 12%; Endurance: 2000h; Leakage Current: 1645uA; Ripple Current: 2860mA; Technical Reference: ATBL355472M035DSPAEB000; Category: Aluminum Electrolytic Capacitors; Match Code: WCAP-ATG8; ComponentLink1Description: Website Link; ComponentLink1URL: https://www.we-online.com/redexpert/article/860010581025?ad; ComponentLink2Description: Datasheet Link; ComponentLink2URL: https://www.we-online.com/redexpert/spec/860010581025?ad; Mount: Through Hole; Operating Temperature Max: 85°C; Operating Temperature Min: -40°C; Packaging: Ammo Pack; Height: 35.5mm; Diameter: 18mm; Capacitance: 4700uF; Rated Voltage (DC): 35V
footprint WCAP-ATG8_D18H35.5
simulation model 860010581025_4.7mF
pins: 1 P, 2 N
text: +

## 860010581026
designator C?, comment 5600uF  (value not drawn)
WCAP-ATG8 Aluminum Electrolytic Capacitor, Radial, THT, D18 x H41mm, 5600uF, 35V; Manufacturer Part Number: 860010581026; Manufacturer: Wurth Elektronik; Capacitance Tolerance: +/-20%; Dissipation Factor: 12%; Endurance: 2000h; Leakage Current: 1960uA; Ripple Current: 2915mA; Technical Reference: ATBL410562M035DSPS1B000; Category: Aluminum Electrolytic Capacitors; Match Code: WCAP-ATG8; ComponentLink1Description: Website Link; ComponentLink1URL: https://www.we-online.com/redexpert/article/860010581026?ad; ComponentLink2Description: Datasheet Link; ComponentLink2URL: https://www.we-online.com/redexpert/spec/860010581026?ad; Mount: Through Hole; Operating Temperature Max: 85°C; Operating Temperature Min: -40°C; Packaging: Ammo Pack; Height: 41mm; Diameter: 18mm; Capacitance: 5600uF; Rated Voltage (DC): 35V
footprint WCAP-ATG8_D18H41
simulation model 860010581026_5.6mF
pins: 1 P, 2 N
text: +

## 860010583027
designator C?, comment 6800uF  (value not drawn)
WCAP-ATG8 Aluminum Electrolytic Capacitor, Radial, THT, D22 x H41mm, 6800uF, 35V; Manufacturer Part Number: 860010583027; Manufacturer: Wurth Elektronik; Capacitance Tolerance: +/-20%; Dissipation Factor: 12%; Endurance: 2000h; Leakage Current: 2380uA; Ripple Current: 3630mA; Technical Reference: ATBN410682M035DSPS2B000; Category: Aluminum Electrolytic Capacitors; Match Code: WCAP-ATG8; ComponentLink1Description: Website Link; ComponentLink1URL: https://www.we-online.com/redexpert/article/860010583027?ad; ComponentLink2Description: Datasheet Link; ComponentLink2URL: https://www.we-online.com/redexpert/spec/860010583027?ad; Mount: Through Hole; Operating Temperature Max: 85°C; Operating Temperature Min: -40°C; Packaging: Ammo Pack; Height: 41mm; Diameter: 22mm; Capacitance: 6800uF; Rated Voltage (DC): 35V
footprint WCAP-ATG8_D22H41
simulation model 860010583027_6.8mF
pins: 1 P, 2 N
text: +

## 860010672001
designator C?, comment 0.1uF  (value not drawn)
WCAP-ATG8 Aluminum Electrolytic Capacitor, Radial, THT, D5 x H11mm, 0.1uF, 50V; Manufacturer Part Number: 860010672001; Manufacturer: Wurth Elektronik; Capacitance Tolerance: +/-20%; Dissipation Factor: 10%; Endurance: 2000h; Leakage Current: 3uA; Ripple Current: 3.3mA; Technical Reference: ATBC110R10M050DSPA3B000; Category: Aluminum Electrolytic Capacitors; Match Code: WCAP-ATG8; ComponentLink1Description: Website Link; ComponentLink1URL: https://www.we-online.com/redexpert/article/860010672001?ad; ComponentLink2Description: Datasheet Link; ComponentLink2URL: https://www.we-online.com/redexpert/spec/860010672001?ad; Mount: Through Hole; Operating Temperature Max: 85°C; Operating Temperature Min: -40°C; Packaging: Ammo Pack; Height: 11mm; Diameter: 5mm; Capacitance: 0.1uF; Rated Voltage (DC): 50V
footprint WCAP-ATG8_D5H11
simulation model 860010672001_100nF
pins: 1 P, 2 N
text: +

## 860010672002
designator C?, comment 0.22uF  (value not drawn)
WCAP-ATG8 Aluminum Electrolytic Capacitor, Radial, THT, D5 x H11mm, 0.22uF, 50V; Manufacturer Part Number: 860010672002; Manufacturer: Wurth Elektronik; Capacitance Tolerance: +/-20%; Dissipation Factor: 10%; Endurance: 2000h; Leakage Current: 3uA; Ripple Current: 3.3mA; Technical Reference: ATBC110R22M050DSPA3B000; Category: Aluminum Electrolytic Capacitors; Match Code: WCAP-ATG8; ComponentLink1Description: Website Link; ComponentLink1URL: https://www.we-online.com/redexpert/article/860010672002?ad; ComponentLink2Description: Datasheet Link; ComponentLink2URL: https://www.we-online.com/redexpert/spec/860010672002?ad; Mount: Through Hole; Operating Temperature Max: 85°C; Operating Temperature Min: -40°C; Packaging: Ammo Pack; Height: 11mm; Diameter: 5mm; Capacitance: 0.22uF; Rated Voltage (DC): 50V
footprint WCAP-ATG8_D5H11
simulation model 860010672002_220nF
pins: 1 P, 2 N
text: +

## 860010672003
designator C?, comment 0.33uF  (value not drawn)
WCAP-ATG8 Aluminum Electrolytic Capacitor, Radial, THT, D5 x H11mm, 0.33uF, 50V; Manufacturer Part Number: 860010672003; Manufacturer: Wurth Elektronik; Capacitance Tolerance: +/-20%; Dissipation Factor: 10%; Endurance: 2000h; Leakage Current: 3uA; Ripple Current: 5.5mA; Technical Reference: ATBC110R33M050DSPA3B000; Category: Aluminum Electrolytic Capacitors; Match Code: WCAP-ATG8; ComponentLink1Description: Website Link; ComponentLink1URL: https://www.we-online.com/redexpert/article/860010672003?ad; ComponentLink2Description: Datasheet Link; ComponentLink2URL: https://www.we-online.com/redexpert/spec/860010672003?ad; Mount: Through Hole; Operating Temperature Max: 85°C; Operating Temperature Min: -40°C; Packaging: Ammo Pack; Height: 11mm; Diameter: 5mm; Capacitance: 0.33uF; Rated Voltage (DC): 50V
footprint WCAP-ATG8_D5H11
simulation model 860010672003_330nF
pins: 1 P, 2 N
text: +

## 860010672004
designator C?, comment 0.47uF  (value not drawn)
WCAP-ATG8 Aluminum Electrolytic Capacitor, Radial, THT, D5 x H11mm, 0.47uF, 50V; Manufacturer Part Number: 860010672004; Manufacturer: Wurth Elektronik; Capacitance Tolerance: +/-20%; Dissipation Factor: 10%; Endurance: 2000h; Leakage Current: 3uA; Ripple Current: 7.5mA; Technical Reference: ATBC110R47M050DSPA3B000; Category: Aluminum Electrolytic Capacitors; Match Code: WCAP-ATG8; ComponentLink1Description: Website Link; ComponentLink1URL: https://www.we-online.com/redexpert/article/860010672004?ad; ComponentLink2Description: Datasheet Link; ComponentLink2URL: https://www.we-online.com/redexpert/spec/860010672004?ad; Mount: Through Hole; Operating Temperature Max: 85°C; Operating Temperature Min: -40°C; Packaging: Ammo Pack; Height: 11mm; Diameter: 5mm; Capacitance: 0.47uF; Rated Voltage (DC): 50V
footprint WCAP-ATG8_D5H11
simulation model 860010672004_470nF
pins: 1 P, 2 N
text: +

## 860010672005
designator C?, comment 1uF  (value not drawn)
WCAP-ATG8 Aluminum Electrolytic Capacitor, Radial, THT, D5 x H11mm, 1uF, 50V; Manufacturer Part Number: 860010672005; Manufacturer: Wurth Elektronik; Capacitance Tolerance: +/-20%; Dissipation Factor: 10%; Endurance: 2000h; Leakage Current: 3uA; Ripple Current: 17mA; Technical Reference: ATBC110010M050DSPA3B000; Category: Aluminum Electrolytic Capacitors; Match Code: WCAP-ATG8; ComponentLink1Description: Website Link; ComponentLink1URL: https://www.we-online.com/redexpert/article/860010672005?ad; ComponentLink2Description: Datasheet Link; ComponentLink2URL: https://www.we-online.com/redexpert/spec/860010672005?ad; Mount: Through Hole; Operating Temperature Max: 85°C; Operating Temperature Min: -40°C; Packaging: Ammo Pack; Height: 11mm; Diameter: 5mm; Capacitance: 1uF; Rated Voltage (DC): 50V
footprint WCAP-ATG8_D5H11
simulation model 860010672005_1uF
pins: 1 P, 2 N
text: +

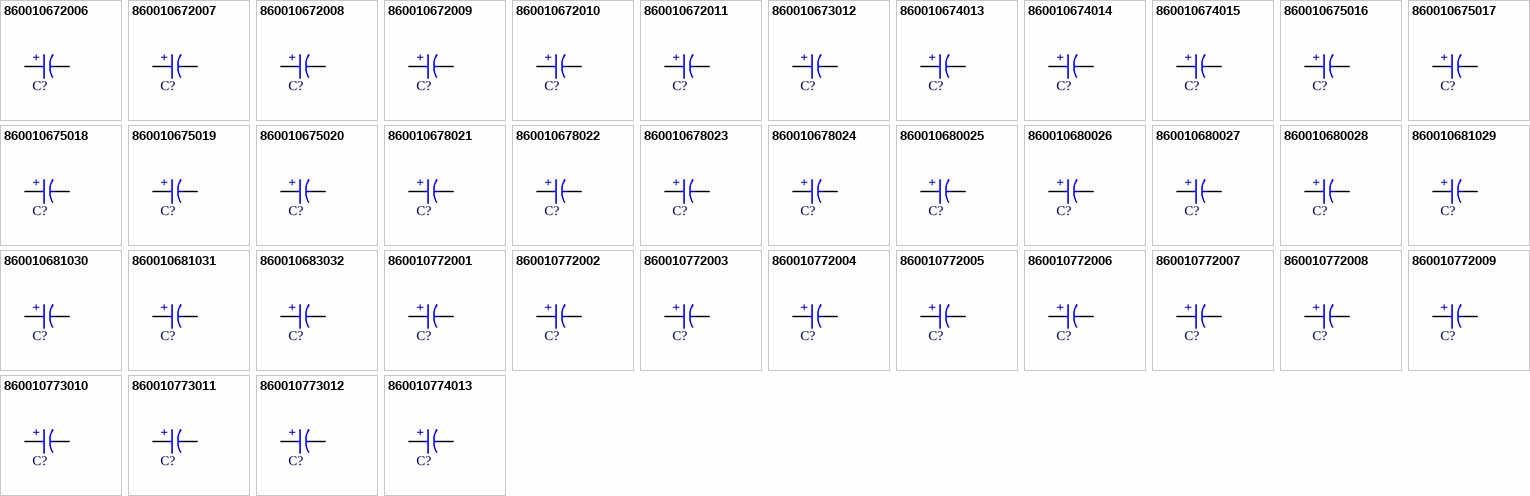
[diagram p9: symbols 860010672006 to 860010774013]

## 860010672006
designator C?, comment 2.2uF  (value not drawn)
WCAP-ATG8 Aluminum Electrolytic Capacitor, Radial, THT, D5 x H11mm, 2.2uF, 50V; Manufacturer Part Number: 860010672006; Manufacturer: Wurth Elektronik; Capacitance Tolerance: +/-20%; Dissipation Factor: 10%; Endurance: 2000h; Leakage Current: 3uA; Ripple Current: 28mA; Technical Reference: ATBC1102R2M050DSPA3B000; Category: Aluminum Electrolytic Capacitors; Match Code: WCAP-ATG8; ComponentLink1Description: Website Link; ComponentLink1URL: https://www.we-online.com/redexpert/article/860010672006?ad; ComponentLink2Description: Datasheet Link; ComponentLink2URL: https://www.we-online.com/redexpert/spec/860010672006?ad; Mount: Through Hole; Operating Temperature Max: 85°C; Operating Temperature Min: -40°C; Packaging: Ammo Pack; Height: 11mm; Diameter: 5mm; Capacitance: 2.2uF; Rated Voltage (DC): 50V
footprint WCAP-ATG8_D5H11
simulation model 860010672006_2.2uF
pins: 1 P, 2 N
text: +

## 860010672007
designator C?, comment 3.3uF  (value not drawn)
WCAP-ATG8 Aluminum Electrolytic Capacitor, Radial, THT, D5 x H11mm, 3.3uF, 50V; Manufacturer Part Number: 860010672007; Manufacturer: Wurth Elektronik; Capacitance Tolerance: +/-20%; Dissipation Factor: 10%; Endurance: 2000h; Leakage Current: 3uA; Ripple Current: 39mA; Technical Reference: ATBC1103R3M050DSPA3B000; Category: Aluminum Electrolytic Capacitors; Match Code: WCAP-ATG8; ComponentLink1Description: Website Link; ComponentLink1URL: https://www.we-online.com/redexpert/article/860010672007?ad; ComponentLink2Description: Datasheet Link; ComponentLink2URL: https://www.we-online.com/redexpert/spec/860010672007?ad; Mount: Through Hole; Operating Temperature Max: 85°C; Operating Temperature Min: -40°C; Packaging: Ammo Pack; Height: 11mm; Diameter: 5mm; Capacitance: 3.3uF; Rated Voltage (DC): 50V
footprint WCAP-ATG8_D5H11
simulation model 860010672007_3.3uF
pins: 1 P, 2 N
text: +

## 860010672008
designator C?, comment 4.7uF  (value not drawn)
WCAP-ATG8 Aluminum Electrolytic Capacitor, Radial, THT, D5 x H11mm, 4.7uF, 50V; Manufacturer Part Number: 860010672008; Manufacturer: Wurth Elektronik; Capacitance Tolerance: +/-20%; Dissipation Factor: 10%; Endurance: 2000h; Leakage Current: 3uA; Ripple Current: 46mA; Technical Reference: ATBC1104R7M050DSPA3B000; Category: Aluminum Electrolytic Capacitors; Match Code: WCAP-ATG8; ComponentLink1Description: Website Link; ComponentLink1URL: https://www.we-online.com/redexpert/article/860010672008?ad; ComponentLink2Description: Datasheet Link; ComponentLink2URL: https://www.we-online.com/redexpert/spec/860010672008?ad; Mount: Through Hole; Operating Temperature Max: 85°C; Operating Temperature Min: -40°C; Packaging: Ammo Pack; Height: 11mm; Diameter: 5mm; Capacitance: 4.7uF; Rated Voltage (DC): 50V
footprint WCAP-ATG8_D5H11
simulation model 860010672008_4.7uF
pins: 1 P, 2 N
text: +